# Altium footprint library Evb board STM32H7 Fullcolor V1l0.PcbLib: 23 footprints (part 1 of 2)
Each footprint in its own frame and in the unit in brackets; x right, y up, seen from the top. Pads: shape width x height; smd on the part's side, far side on the other; paste and mask are expansions set on the pad; w line width, h text height; cw(c..) or ccw(c..) is an arc to the next point about the centre after c.
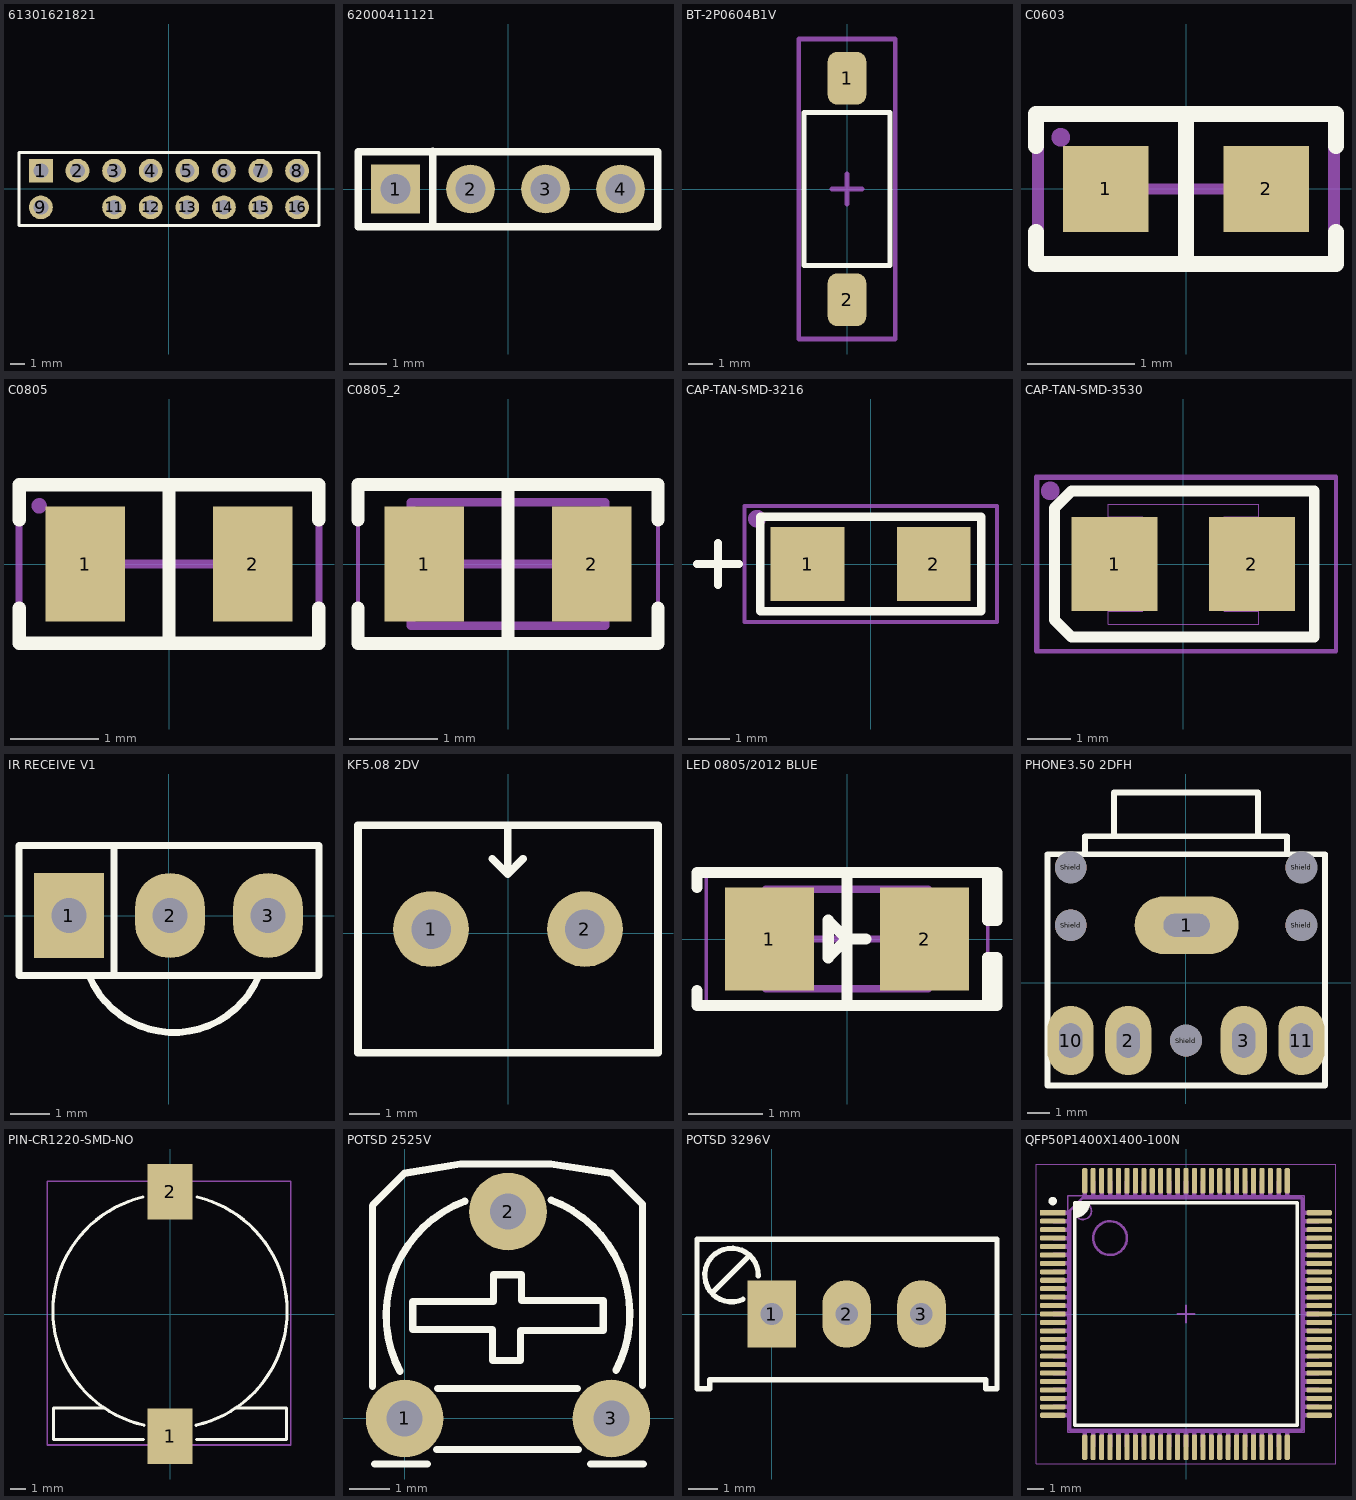
[diagram p0: the footprints below, top view; thin cyan lines are the x and y axes]

## 61301621821 [mil] "16 pins, dual row, straight, gold plating"
height 334.65
pads (16):
  rect 65x65 hole 40.16: 1(-350,50)
  round 65 hole 40.16: 2(-250,50) 3(-150,50) 4(-50,50) 5(50,50) 6(150,50) 7(250,50) 8(350,50) 9(-350,-50) 11(-150,-50) 12(-50,-50) 13(50,-50) 14(150,-50) 15(250,-50) 16(350,-50)
  round 0 all layers, no hole: 10(-250,-50)
Top Overlay:
  lines w7.87: -409.84,-100 409.85,-100 409.85,100 -409.84,100 -409.84,-100
3D body "61301621821.stp": height 332.68, standoff -122.05, extent -409.84,-100 409.85,100

## 62000411121 [mm] "4 pins, 1 row, straight, gold plating"
height 6
pads (4):
  rect 1.3x1.3 hole 0.8: 1(-3,0)
  round 1.3 hole 0.8: 2(-1,0) 3(1,0) 4(3,0)
Top Overlay:
  lines w0.2: -2,-1 -2,1 ; -4,-1 -4,1 4,1 4,-1 -4,-1
3D body "62000411121.stp": height 6.01, standoff -2.79, extent -4,-1 4,1

## BT-2P0604B1V [mm]
height 4.42
pads (2):
  rrect50% 1.6x2.19 smd: 1(0,4.595) 2(0,-4.595)
Top Overlay:
  lines w0.2: -1.778,-3.175 1.778,-3.175 1.778,3.175 -1.778,3.175 -1.778,-3.175
Mechanical 15:
  lines w0.2: -0.635,0 0.635,0 ; 0,-0.635 0,0.635 ; -2,-6.223 -2,6.223 2,6.223 2,-6.223 -2,-6.223
3D body "FSMSMTR.STEP": height 4.42, standoff 0, extent -1.75,-4.984 1.75,4.985

## C0603 [mm] "Chip Capacitor, 2-Leads, Body 1.60x0.80mm, IPC Medium Density"
height 0.89
pads (2):
  rect 0.8x0.8 smd: 1(-0.75,0) 2(0.75,0)
Top Overlay:
  lines w0.15: -1.4,-0.4 -1.4,-0.7 1.4,-0.7 1.4,-0.4 ; -1.4,0.4 -1.4,0.7 1.4,0.7 1.4,0.4 ; 0,-0.7 0,0.7
Mechanical 15:
  lines w0.05: -1.35,-0.75 -1.35,0.75 1.35,0.75 1.35,-0.75 -1.35,-0.75
  lines w0.1: -0.475,0 0.475,0 ; 0,-0.475 0,0.475
Mechanical 29:
  circle w0.102: c-1.168,0.483 r0.036
  lines w0.076: -1.397,-0.686 1.397,-0.686 1.397,0.711 -1.397,0.711 -1.397,-0.686
  text ".Designator" at -1.168,-0.406 h0.64
3D body "C0603.step": height 0.79, standoff 0, extent -0.8,-0.425 0.8,0.435
3D body "C0603.step": height 0.95, standoff 0.15, extent -0.8,-0.425 0.8,0.435

## C0805 [mm] "Chip Capacitor, 2-Leads, Body 2.00x1.20mm, IPC Medium Density"
height 1.15
pads (2):
  rect 0.9x1.3 smd: 1(-0.95,0) 2(0.95,0)
Top Overlay:
  lines w0.15: -1.7,-0.5 -1.7,-0.9 1.7,-0.9 1.7,-0.5 ; -1.7,0.5 -1.7,0.9 1.7,0.9 1.7,0.5 ; 0,-0.9 0,0.9
Mechanical 15:
  lines w0.05: -1.7,-0.95 1.7,-0.95 1.7,0.95 -1.7,0.95 -1.7,-0.95
  lines w0.1: -0.5,0 0.5,0 ; 0,-0.5 0,0.5
Mechanical 29:
  circle w0.102: c-1.473,0.66 r0.036
  lines w0.076: -1.702,-0.889 1.702,-0.889 1.702,0.889 -1.702,0.889 -1.702,-0.889
  text ".Designator" at -1.473,-0.229 h0.64
3D body "CAPC2012X95N EIA 0805.step": height 0.95, standoff 0, extent -1,-0.6 1,0.6

## C0805_2 [mm]
pads (2):
  rect 0.9x1.3 smd: 1(-0.95,0) 2(0.95,0)
Top Overlay:
  lines w0.15: -1.7,-0.5 -1.7,-0.9 1.7,-0.9 1.7,-0.5 ; -1.7,0.5 -1.7,0.9 1.7,0.9 1.7,0.5 ; 0,-0.9 0,0.9
Mechanical 13:
  lines w0.1: -1.1,-0.7 -1.1,0.7 1.1,0.7 1.1,-0.7 -1.1,-0.7
Mechanical 15:
  lines w0.05: -1.7,-0.95 -1.7,0.95 1.7,0.95 1.7,-0.95 -1.7,-0.95
  lines w0.1: -0.5,0 0.5,0 ; 0,-0.5 0,0.5
3D body "CAPC2012X95N EIA 0805.step": height 1.5, standoff 0.55, extent -1,-0.6 1,0.6
3D body "CAPC2012X95N EIA 0805.step": height 0.95, standoff 0, extent -1,-0.6 1,0.6

## CAP-TAN-SMD-3216 [mil] "Tantalum Capacitor SMD, EIA-3216-18, Case A"
height 336.22
pads (2):
  rect 70x70 smd: 1(-60,0) 2(60,0)
Top Overlay:
  lines w7.87: -165,0 -125,0 ; -145,-20 -145,20 ; -105,-45 -105,45 105,45 105,-45 -105,-45
Mechanical 15:
  lines w3.94: -120,-55 120,-55 120,55 -120,55 -120,-55
Mechanical 29:
  circle w15: c-108,43 r1
  lines w4: -120,-55 -120,55 120,55 120,-55 -120,-55
  text ".Designator" at -96,-28 h40
3D body "Tantalum SMD (EIA-3216-18) (Case A).SLDPRT": height 70.87, standoff 0, extent -66.92,-35.42 66.93,35.44

## CAP-TAN-SMD-3530 [mm] "Capacitor 3.5x2.8mm (B-Case)"
height 2.1
pads (2):
  rect 2x2.2 smd: 1(-1.6,0)
  rect 2x2.2 smd mask+0: 2(1.6,0)
Top Overlay:
  lines w0.254: -3,-1.3 -3,1.3 -2.6,1.7 3.05,1.7 3.05,-1.7 -2.6,-1.7 -3,-1.3
Mechanical 7:
  lines w0.025: -1.748,-1.404 1.752,-1.404 1.752,1.396 -1.748,1.396 ; -1.748,-1.104 -0.948,-1.104 -0.948,1.096 -1.748,1.096 ; -1.748,-1.404 -1.748,1.396 ; 1.752,-1.104 0.952,-1.104 0.952,1.096 1.752,1.096
  text ".Comment" at -1.7,-2.2 h0.5
  text ".Designator" at -1.8,1.8 h0.5
Mechanical 15:
  lines w0.1: -3.429,-2.032 3.556,-2.032 3.556,2.032 -3.429,2.032 -3.429,-2.032
Mechanical 29:
  circle w0.381: c-3.099,1.702 r0.025
  lines w0.102: -3.404,-2.032 3.556,-2.032 3.556,2.007 -3.404,2.007 -3.404,-2.032
  text ".Designator" at -2.794,-0.102 h1.02
3D body: height 1, standoff 0, extent -1.704,-1.539 1.763,1.537
3D body: height 0.3, standoff 0, extent 1.578,-0.658 1.803,0.768
3D body: height 0.3, standoff 0, extent -1.793,-0.665 -1.568,0.824

## IR RECEIVE V1 [mil] "Receiver Infared IC"
height 200
pads (3):
  rect 70x85 hole 35: 1(-99.5,0)
  oval 70x85 hole 35: 2(1.5,0) 3(99.5,0)
Top Overlay:
  lines w7: -79.5,-60 ccw(c5.5,-25) 90.5,-60 ; -54.5,-60 -54.5,70 ; -149.5,-60 150.5,-60 150.5,70 -149.5,70 -149.5,-60
3D body "SW3dPS-TO92.STEP": height 345.04, standoff -99.79, extent -107.37,-100.39 110.37,61.02

## KF5.08 2DV [mm]
height 1.75
pads (2):
  round 2.5 hole 1.3: 1(-2.54,0.127) 2(2.54,0.127)
Top Overlay:
  lines w0.254: -0.521,2.451 -0.013,1.943 ; -0.013,3.505 -0.013,1.943 ; 0.495,2.451 -0.013,1.943 ; -4.953,-3.95 -4.953,3.556 4.953,3.556 4.953,-3.95 -4.953,-3.95
3D body "User Library-Terminal-Screw-3A-2way.step": height 10.13, standoff -2.87, extent -5,-4.435 5.6,3.165

## LED 0805/2012 BLUE [mm] "Chip Diode, 2-Leads, Body 2.00x1.25mm, IPC Medium Density"
height 0.7
pads (2):
  rect 1.2x1.397 smd: 1(-1.05,0) 2(1.05,0)
Top Overlay:
  lines w0.15: -2.032,-0.7 -2.032,-0.9 1.905,-0.9 ; -2.032,0.7 -2.032,0.9 1.905,0.9 ; 0,-0.9 0,0.9 ; 0.254,0 0,0 ; 0,0 -0.254,0.254 -0.254,-0.254 0,0 ; 1.905,-0.9 2.032,-0.9 2.032,-0.254 1.905,-0.254 1.905,-0.9 ; 1.905,0.9 2.032,0.9 2.032,0.254 1.905,0.254 1.905,0.9
Mechanical 13:
  lines w0.1: -1.1,-0.675 -1.1,0.675 1.1,0.675 1.1,-0.675 -1.1,-0.675
Mechanical 15:
  lines w0.05: -1.905,-0.95 -1.905,0.95 1.905,0.95 1.905,-0.95 -1.905,-0.95
  lines w0.1: -0.5,0 0.5,0 ; 0,-0.5 0,0.5
3D body "LED 0805 Lens BLUE.STEP": height 0.9, standoff 0.3, extent -0.65,-0.625 0.65,0.625
3D body "LED 0805 Base BLUE.STEP": height 0.4, standoff 0, extent -1,-0.625 1,0.625

## PHONE3.50 2DFH [mil]
height 336.22
pads (10):
  oval 180x100 hole 40 slot 80 at 0 deg: 1(1,100)
  oval 80x120 hole 40 slot 60 at 90 deg: 2(-100,-100) 3(100,-100) 10(-200,-100) 11(200,-100)
  round 55 hole 55: Shield(-200,100) Shield(-200,200) Shield(0,-100) Shield(200,100) Shield(200,200)
Top Overlay:
  lines w10: -240,219 -240,-178 ; -175,224 -175,254 175,254 175,226 174,225 ; -125,255 -125,330 125,330 ; 125,329 125,256 126,255 ; 240,-178 -240,-178 ; -240,-178 -240,223 241,223 241,-178 -240,-178
3D body "SW3dPS-CONNECTOR, PHONE JACK, STEREO, 3.5 MM, SEE-PLUS ST-3536-02HG.STEP": height 394.3, standoff -137.19, extent -239,-201.56 233.44,353.56

## PIN-CR1220-SMD-NO [mm] "PANASONIC - CR-1220/BN - BATTERY, LITHIUM, CR1220"
height 0.7
pads (2):
  rect 2.8x3.5 smd: 1(0,-7.645) 2(0,7.696)
Top Overlay:
  lines w0.2: -4.115,-5.882 -7.315,-5.882 -7.315,-7.863 -1.676,-7.863 ; -1.711,7.369 ccw(c0,0.214) -1.643,-6.956 ; 1.643,-6.956 ccw(c0,0.214) 1.711,7.369 ; 1.676,-7.863 7.315,-7.863 7.315,-5.882 4.115,-5.882
Mechanical 15:
  lines w0.1: -7.722,-8.204 -7.722,8.357 7.595,8.357 7.595,-8.204 -7.722,-8.204
3D body "User Library-CR1220-2.STEP": height -2.2, standoff -4.2, extent -6.149,-6.073 6.251,6.327
3D body "ALSRobot-CR1220.STEP": height 0.4, standoff -4.54, extent -7.493,-9.123 7.504,9.377

## POTSD 2525V [mil] "Resistor Variable"
height 200
pads (3):
  round 75 hole 35: 1(0,0) 2(100,200) 3(200,0)
Top Overlay:
  lines w7: -31,31 -31,206 0,237 54,246 141.5,246 200,237 230,207 230,32 ; -29,-44 22,-44 ; -4.35,45.34 cw(c100,100) 58.1,210.1 ; 8,113 8,86 85,86 85,56 112,56 112,85 192,85 192,114 113,114 113,139 86,139 86,113 9,113 ; 31,-30 168,-30 ; 32,29 167,29 ; 141.9,211.1 cw(c100,101) 204.35,46.34 ; 180,-44 231,-44
3D body "User Library-Pot - RES_VAR1.step": height 293.74, standoff -135.39, extent -27.95,-49.68 227.95,227.88

## POTSD 3296V [mil] "Variable Resistor"
height 400
pads (3):
  rect 65x90 hole 30: 1(0,0)
  oval 65x90 hole 30: 2(100,0) 3(200,0)
Top Overlay:
  lines w7: -80,28 -30,78 ; -38.6,19.63 cw(c-53.79,52.05) -18.01,50.77 ; -100,-100 -83,-100 -83,-88 286,-88 286,-100 301,-100 301,100 -100,100 -100,-100
3D body "trimmerpoti.SLDPRT": height 429.51, standoff -190.17, extent -90.94,-98.19 290.94,90

## QFP50P1400X1400-100N [mm] "TQFP, 100-Leads, Body 14.00x14.00mm, Pitch 0.50mm, IPC Medium Density"
height 1.6
pads (100):
  rect 1.5x0.3 smd: 1(-7.9,6)
  rrect50% 1.5x0.3 smd: 2(-7.9,5.5) 3(-7.9,5) 4(-7.9,4.5) 5(-7.9,4) 6(-7.9,3.5) 7(-7.9,3) 8(-7.9,2.5) 9(-7.9,2) 10(-7.9,1.5) 11(-7.9,1) 12(-7.9,0.5) 13(-7.9,0) 14(-7.9,-0.5) 15(-7.9,-1) 16(-7.9,-1.5) 17(-7.9,-2) 18(-7.9,-2.5) 19(-7.9,-3) 20(-7.9,-3.5) 21(-7.9,-4) 22(-7.9,-4.5) 23(-7.9,-5) 24(-7.9,-5.5) 25(-7.9,-6) 51(7.9,-6) 52(7.9,-5.5) 53(7.9,-5) 54(7.9,-4.5) 55(7.9,-4) 56(7.9,-3.5) 57(7.9,-3) 58(7.9,-2.5) 59(7.9,-2) 60(7.9,-1.5) 61(7.9,-1) 62(7.9,-0.5) 63(7.9,0) 64(7.9,0.5) 65(7.9,1) 66(7.9,1.5) 67(7.9,2) 68(7.9,2.5) 69(7.9,3) 70(7.9,3.5) 71(7.9,4) 72(7.9,4.5) 73(7.9,5) 74(7.9,5.5) 75(7.9,6)
  rrect50% 0.3x1.5 smd: 26(-6,-7.9) 27(-5.5,-7.9) 28(-5,-7.9) 29(-4.5,-7.9) 30(-4,-7.9) 31(-3.5,-7.9) 32(-3,-7.9) 33(-2.5,-7.9) 34(-2,-7.9) 35(-1.5,-7.9) 36(-1,-7.9) 37(-0.5,-7.9) 38(0,-7.9) 39(0.5,-7.9) 40(1,-7.9) 41(1.5,-7.9) 42(2,-7.9) 43(2.5,-7.9) 44(3,-7.9) 45(3.5,-7.9) 46(4,-7.9) 47(4.5,-7.9) 48(5,-7.9) 49(5.5,-7.9) 50(6,-7.9) 76(6,7.9) 77(5.5,7.9) 78(5,7.9) 79(4.5,7.9) 80(4,7.9) 81(3.5,7.9) 82(3,7.9) 83(2.5,7.9) 84(2,7.9) 85(1.5,7.9) 86(1,7.9) 87(0.5,7.9) 88(0,7.9) 89(-0.5,7.9) 90(-1,7.9) 91(-1.5,7.9) 92(-2,7.9) 93(-2.5,7.9) 94(-3,7.9) 95(-3.5,7.9) 96(-4,7.9) 97(-4.5,7.9) 98(-5,7.9) 99(-5.5,7.9) 100(-6,7.9)
Top Overlay:
  circle w0.25: c-7.9,6.69 r0.125
  region: -6.6,6.6 -5.786,6.6 -5.786,6.421 -5.913,6.294 -5.913,6.167 -6.167,5.913 -6.294,5.913 -6.421,5.786 -6.6,5.786
  lines w0.2: -6.6,5.786 ccw(c-6.6,6.6) -5.786,6.6 ; -6.6,-6.6 6.6,-6.6 6.6,6.6 -6.6,6.6 -6.6,-6.6
Mechanical 13:
  circle w0.1: c-6.1,6.1 r0.5
  circle w0.1: c-6.1,6.1 r0.5
  lines w0.1: -7,-7 7,-7 ; -7,-7 -7,7 ; -7,-7 7,-7 ; -7,-7 -7,7 ; -7,7 7,7 ; -7,7 7,7 ; 7,-7 7,7 ; 7,-7 7,7
Mechanical 15:
  lines w0.05: -8.89,-8.89 8.89,-8.89 8.89,8.89 -8.89,8.89 -8.89,-8.89
  lines w0.1: -0.5,0 0.5,0 -0.5,0 ; 0,-0.5 0,0.5 0,-0.5
Mechanical 16:
  circle w0.152: c-4.5,4.5 r1
  region: 6.868,6.135 6.868,5.865 7.873,5.865 7.873,6.135
  region: 6.868,5.635 6.868,5.365 7.873,5.365 7.873,5.635
  region: 6.868,5.135 6.868,4.865 7.873,4.865 7.873,5.135
  region: 6.868,4.635 6.868,4.365 7.873,4.365 7.873,4.635
  region: 6.868,4.135 6.868,3.865 7.873,3.865 7.873,4.135
  region: 6.868,3.635 6.868,3.365 7.873,3.365 7.873,3.635
  region: 6.868,3.135 6.868,2.865 7.873,2.865 7.873,3.135
  region: 6.868,2.635 6.868,2.365 7.873,2.365 7.873,2.635
  region: 6.868,2.135 6.868,1.865 7.873,1.865 7.873,2.135
  region: 6.868,1.635 6.868,1.365 7.873,1.365 7.873,1.635
  region: 6.868,1.135 6.868,0.865 7.873,0.865 7.873,1.135
  region: 6.868,0.635 6.868,0.365 7.873,0.365 7.873,0.635
  region: 6.868,0.135 6.868,-0.135 7.873,-0.135 7.873,0.135
  region: 6.868,-0.365 6.868,-0.635 7.873,-0.635 7.873,-0.365
  region: 6.868,-0.865 6.868,-1.135 7.873,-1.135 7.873,-0.865
  region: 6.868,-1.365 6.868,-1.635 7.873,-1.635 7.873,-1.365
  region: 6.868,-1.865 6.868,-2.135 7.873,-2.135 7.873,-1.865
  region: 6.868,-2.365 6.868,-2.635 7.873,-2.635 7.873,-2.365
  region: 6.868,-2.865 6.868,-3.135 7.873,-3.135 7.873,-2.865
  region: 6.868,-3.365 6.868,-3.635 7.873,-3.635 7.873,-3.365
  region: 6.868,-3.865 6.868,-4.135 7.873,-4.135 7.873,-3.865
  region: 6.868,-4.365 6.868,-4.635 7.873,-4.635 7.873,-4.365
  region: 6.868,-4.865 6.868,-5.135 7.873,-5.135 7.873,-4.865
  region: 6.868,-5.365 6.868,-5.635 7.873,-5.635 7.873,-5.365
  region: 6.868,-5.865 6.868,-6.135 7.873,-6.135 7.873,-5.865
  region: 5.865,-6.873 5.865,-7.878 6.135,-7.878 6.135,-6.873
  region: 5.365,-6.873 5.365,-7.878 5.635,-7.878 5.635,-6.873
  region: 4.865,-6.873 4.865,-7.878 5.135,-7.878 5.135,-6.873
  region: 4.365,-6.873 4.365,-7.878 4.635,-7.878 4.635,-6.873
  region: 3.865,-6.873 3.865,-7.878 4.135,-7.878 4.135,-6.873
  region: 3.365,-6.873 3.365,-7.878 3.635,-7.878 3.635,-6.873
  region: 2.865,-6.873 2.865,-7.878 3.135,-7.878 3.135,-6.873
  region: 2.365,-6.873 2.365,-7.878 2.635,-7.878 2.635,-6.873
  region: 1.865,-6.873 1.865,-7.878 2.135,-7.878 2.135,-6.873
  region: 1.365,-6.873 1.365,-7.878 1.635,-7.878 1.635,-6.873
  region: 0.865,-6.873 0.865,-7.878 1.135,-7.878 1.135,-6.873
  region: 0.365,-6.873 0.365,-7.878 0.635,-7.878 0.635,-6.873
  region: -0.135,-6.873 -0.135,-7.878 0.135,-7.878 0.135,-6.873
  region: -0.635,-6.873 -0.635,-7.878 -0.365,-7.878 -0.365,-6.873
  region: -1.135,-6.873 -1.135,-7.878 -0.865,-7.878 -0.865,-6.873
  region: -1.635,-6.873 -1.635,-7.878 -1.365,-7.878 -1.365,-6.873
  region: -2.135,-6.873 -2.135,-7.878 -1.865,-7.878 -1.865,-6.873
  region: -2.635,-6.873 -2.635,-7.878 -2.365,-7.878 -2.365,-6.873
  region: -3.135,-6.873 -3.135,-7.878 -2.865,-7.878 -2.865,-6.873
  region: -3.635,-6.873 -3.635,-7.878 -3.365,-7.878 -3.365,-6.873
  region: -4.135,-6.873 -4.135,-7.878 -3.865,-7.878 -3.865,-6.873
  region: -4.635,-6.873 -4.635,-7.878 -4.365,-7.878 -4.365,-6.873
  region: -5.135,-6.873 -5.135,-7.878 -4.865,-7.878 -4.865,-6.873
  region: -5.635,-6.873 -5.635,-7.878 -5.365,-7.878 -5.365,-6.873
  region: -6.135,-6.873 -6.135,-7.878 -5.865,-7.878 -5.865,-6.873
  region: -7.873,-5.865 -7.873,-6.135 -6.868,-6.135 -6.868,-5.865
  region: -7.873,-5.365 -7.873,-5.635 -6.868,-5.635 -6.868,-5.365
  region: -7.873,-4.865 -7.873,-5.135 -6.868,-5.135 -6.868,-4.865
  region: -7.873,-4.365 -7.873,-4.635 -6.868,-4.635 -6.868,-4.365
  region: -7.873,-3.865 -7.873,-4.135 -6.868,-4.135 -6.868,-3.865
  region: -7.873,-3.365 -7.873,-3.635 -6.868,-3.635 -6.868,-3.365
  region: -7.873,-2.865 -7.873,-3.135 -6.868,-3.135 -6.868,-2.865
  region: -7.873,-2.365 -7.873,-2.635 -6.868,-2.635 -6.868,-2.365
  region: -7.873,-1.865 -7.873,-2.135 -6.868,-2.135 -6.868,-1.865
  region: -7.873,-1.365 -7.873,-1.635 -6.868,-1.635 -6.868,-1.365
  region: -7.873,-0.865 -7.873,-1.135 -6.868,-1.135 -6.868,-0.865
  region: -7.873,-0.365 -7.873,-0.635 -6.868,-0.635 -6.868,-0.365
  region: -7.873,0.135 -7.873,-0.135 -6.868,-0.135 -6.868,0.135
  region: -7.873,0.635 -7.873,0.365 -6.868,0.365 -6.868,0.635
  region: -7.873,1.135 -7.873,0.865 -6.868,0.865 -6.868,1.135
  region: -7.873,1.635 -7.873,1.365 -6.868,1.365 -6.868,1.635
  region: -7.873,2.135 -7.873,1.865 -6.868,1.865 -6.868,2.135
  region: -7.873,2.635 -7.873,2.365 -6.868,2.365 -6.868,2.635
  region: -7.873,3.135 -7.873,2.865 -6.868,2.865 -6.868,3.135
  region: -7.873,3.635 -7.873,3.365 -6.868,3.365 -6.868,3.635
  region: -7.873,4.135 -7.873,3.865 -6.868,3.865 -6.868,4.135
  region: -7.873,4.635 -7.873,4.365 -6.868,4.365 -6.868,4.635
  region: -7.873,5.135 -7.873,4.865 -6.868,4.865 -6.868,5.135
  region: -7.873,5.635 -7.873,5.365 -6.868,5.365 -6.868,5.635
  region: -7.873,6.135 -7.873,5.865 -6.868,5.865 -6.868,6.135
  region: -6.135,7.878 -6.135,6.873 -5.865,6.873 -5.865,7.878
  region: -5.635,7.878 -5.635,6.873 -5.365,6.873 -5.365,7.878
  region: -5.135,7.878 -5.135,6.873 -4.865,6.873 -4.865,7.878
  region: -4.635,7.878 -4.635,6.873 -4.365,6.873 -4.365,7.878
  region: -4.135,7.878 -4.135,6.873 -3.865,6.873 -3.865,7.878
  region: -3.635,7.878 -3.635,6.873 -3.365,6.873 -3.365,7.878
  region: -3.135,7.878 -3.135,6.873 -2.865,6.873 -2.865,7.878
  region: -2.635,7.878 -2.635,6.873 -2.365,6.873 -2.365,7.878
  region: -2.135,7.878 -2.135,6.873 -1.865,6.873 -1.865,7.878
  region: -1.635,7.878 -1.635,6.873 -1.365,6.873 -1.365,7.878
  region: -1.135,7.878 -1.135,6.873 -0.865,6.873 -0.865,7.878
  region: -0.635,7.878 -0.635,6.873 -0.365,6.873 -0.365,7.878
  region: -0.135,7.878 -0.135,6.873 0.135,6.873 0.135,7.878
  region: 0.365,7.878 0.365,6.873 0.635,6.873 0.635,7.878
  region: 0.865,7.878 0.865,6.873 1.135,6.873 1.135,7.878
  region: 1.365,7.878 1.365,6.873 1.635,6.873 1.635,7.878
  region: 1.865,7.878 1.865,6.873 2.135,6.873 2.135,7.878
  region: 2.365,7.878 2.365,6.873 2.635,6.873 2.635,7.878
  region: 2.865,7.878 2.865,6.873 3.135,6.873 3.135,7.878
  region: 3.365,7.878 3.365,6.873 3.635,6.873 3.635,7.878
  region: 3.865,7.878 3.865,6.873 4.135,6.873 4.135,7.878
  region: 4.365,7.878 4.365,6.873 4.635,6.873 4.635,7.878
  region: 4.865,7.878 4.865,6.873 5.135,6.873 5.135,7.878
  region: 5.365,7.878 5.365,6.873 5.635,6.873 5.635,7.878
  region: 5.865,7.878 5.865,6.873 6.135,6.873 6.135,7.878
  lines w0.152: -6.873,-6.873 6.873,-6.873 6.873,6.873 -6.123,6.873 -6.873,6.123 -6.873,-6.873
Mechanical 29:
  text ".Designator" at -5.5,-0.5 h2.54
3D body "SW3dPS-TQFP100-1.STEP": height 1.62, standoff 0, extent -8.001,-7.999 7.999,8.001